# Altium footprint library SX1301DVK_e286v01a.PcbLib: 110 footprints (part 2 of 7)
Each footprint in its own frame and in the unit in brackets; x right, y up, seen from the top. Pads: shape width x height; smd on the part's side, far side on the other; paste and mask are expansions set on the pad; w line width, h text height; cw(c..) or ccw(c..) is an arc to the next point about the centre after c.
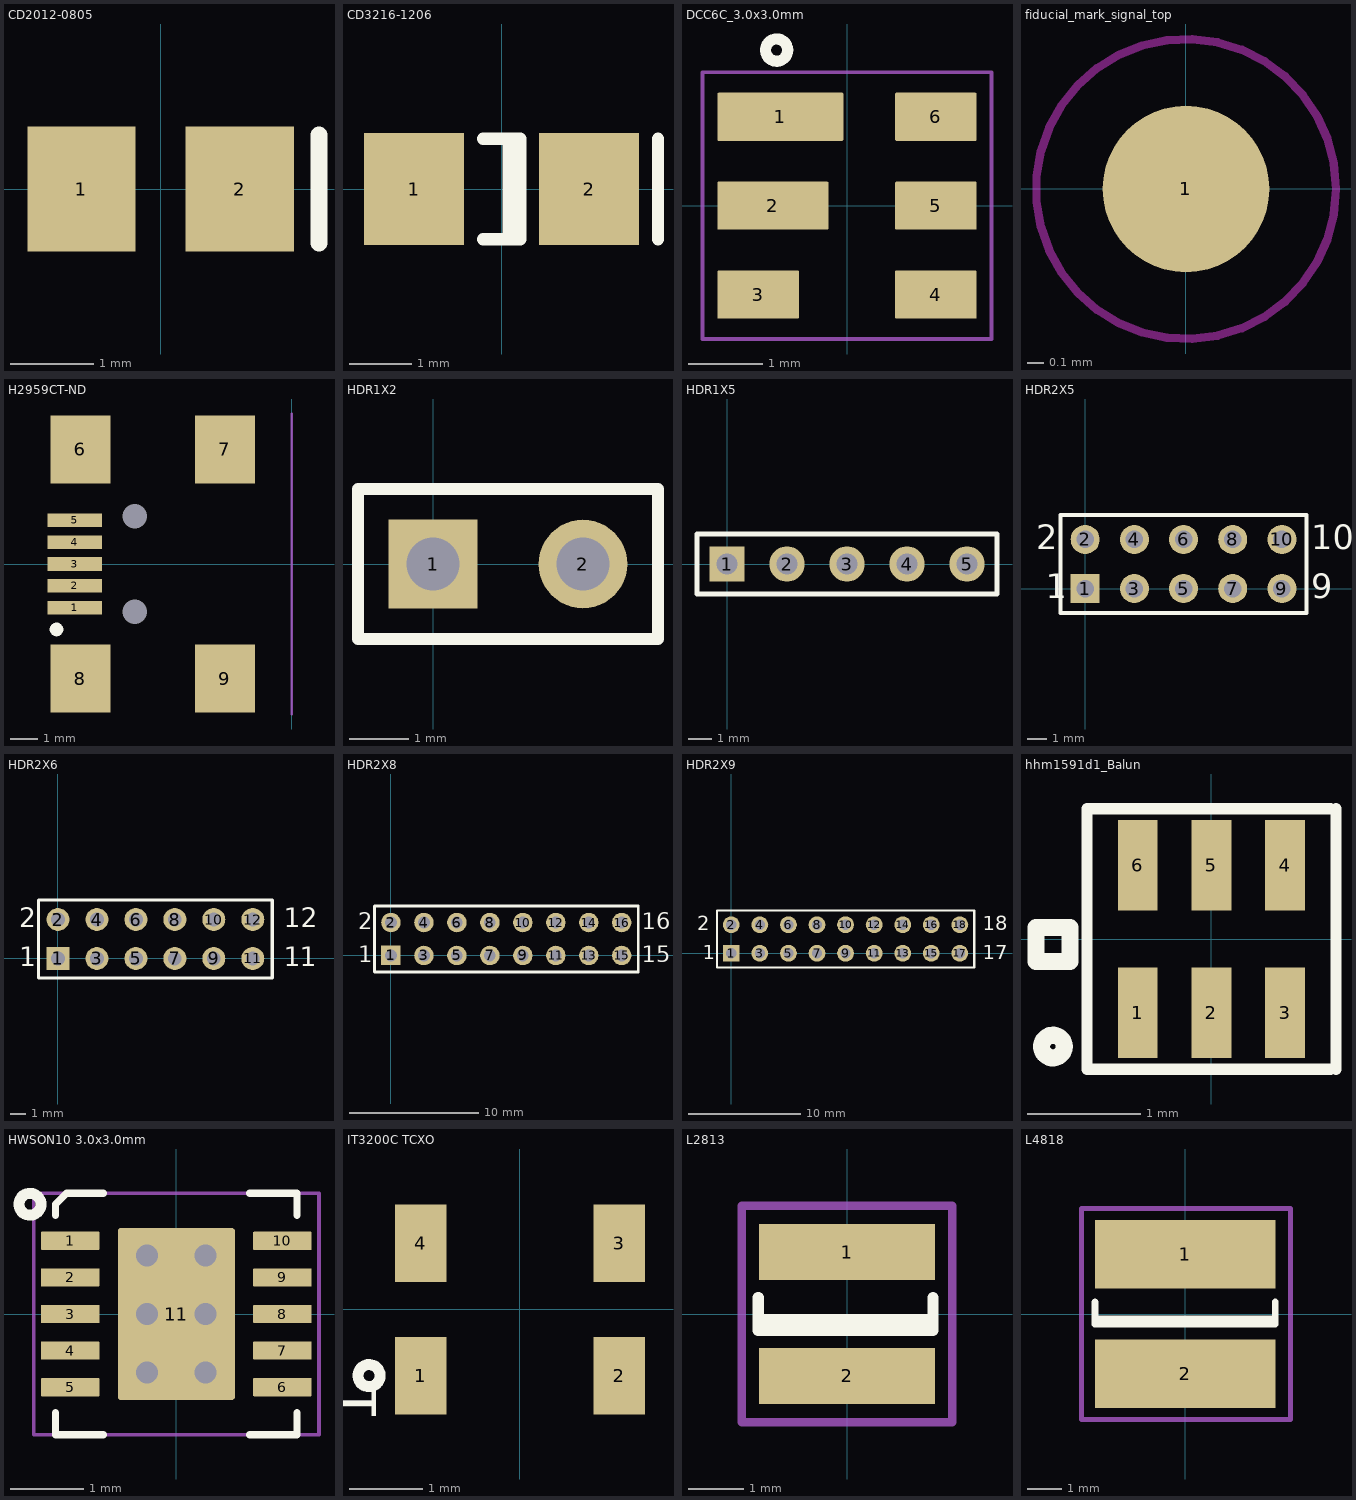
[diagram p1: the footprints below, top view; thin cyan lines are the x and y axes]

## CD2012-0805 [mm] "Chip Diode; Body 2.0 x 1.3 mm (LxW typ)"
height 1.1
pads (2):
  rect 1.3x1.5 smd mask+0.05: 1(-0.95,0) 2(0.95,0)
Top Overlay:
  lines w0.2: 1.9,-0.65 1.9,0.65

## CD3216-1206 [mm] "Chip Diode; Body 3.2 x 1.6 mm (LxW typ)"
height 1.35
pads (2):
  rect 1.6x1.8 smd mask+0.05: 1(-1.4,0) 2(1.4,0)
Top Overlay:
  lines w0.2: -0.3,-0.8 0.3,-0.8 0.3,0.8 -0.3,0.8 ; 0.11,-0.8 0.11,0.8 ; 2.5,-0.8 2.5,0.8

## DCC6C_3.0x3.0mm [mm] "DCC6C footprint, 3.0x3.0mm"
height 1.1
pads (6):
  rrect5% 1.7x0.65 smd mask+0.05: 1(-0.9,1.2)
  rrect5% 1.5x0.65 smd mask+0.05: 2(-1,0)
  rrect5% 1.1x0.65 smd mask+0.05: 3(-1.2,-1.2) 4(1.2,-1.2) 5(1.2,0) 6(1.2,1.2)
Top Overlay:
  circle w0.15: c-0.95,2.1 r0.15
Mechanical 15:
  lines w0.05: -1.95,-1.8 -1.95,1.8 1.95,1.8 1.95,-1.8 -1.95,-1.8
3D body: height 1, standoff 0, extent -1.5,-1.5 1.5,1.5

## fiducial_mark_signal_top [mm] "Fiducial mark for automatic assembly"
height 1
pads (1):
  round 1 smd paste-2 mask+0.5: 1(0,0)
Top Layer keep-out:
  circle w0.05: c0,0 r0.9

## H2959CT-ND [mm] "Connector; USB2.0, Type A, SM; 5 Position; Right Angle"
height 3.9
pads (11):
  rect 2x0.5 smd mask+0.05: 1(-7.95,-1.6) 2(-7.95,-0.8) 3(-7.95,0) 4(-7.95,0.8) 5(-7.95,1.6)
  rect 2.2x2.5 smd mask+0.05: 6(-7.75,4.2) 7(-2.45,4.2) 8(-7.75,-4.2) 9(-2.45,-4.2)
  round 0 hole 0.9 unplated mask+0.05: MH1(-5.75,1.75)
  round 0 hole 0.9 unplated paste+0 mask+0.05: MH2(-5.75,-1.75)
Top Overlay:
  circle w0.25: c-8.625,-2.4 r0.125
Mechanical 15:
  lines w0.1: 0,-5.5 0,5.5

## HDR1X2 [mm] "Connector; Header; 2 Position"
pads (2):
  rect 1.5x1.5 hole 0.9: 1(0,0)
  round 1.5 hole 0.9: 2(2.54,0)
Top Overlay:
  lines w0.2: -1.27,-1.27 -1.27,1.27 3.81,1.27 3.81,-1.27 -1.27,-1.27

## HDR1X5 [mm] "Connector; Header; 5 Position"
pads (5):
  rect 1.5x1.5 hole 0.9: 1(0,0)
  round 1.5 hole 0.9: 2(2.54,0) 3(5.08,0) 4(7.62,0) 5(10.16,0)
Top Overlay:
  lines w0.2: -1.27,-1.27 -1.27,1.27 11.43,1.27 11.43,-1.27 -1.27,-1.27

## HDR2X5 [mm] "Connector; Header; 5x2 Position"
pads (10):
  rect 1.5x1.5 hole 0.9: 1(0,0)
  round 1.5 hole 0.9: 2(0,2.54) 3(2.54,0) 4(2.54,2.54) 5(5.08,0) 6(5.08,2.54) 7(7.62,0) 8(7.62,2.54) 9(10.16,0) 10(10.16,2.54)
Top Overlay:
  lines w0.2: -1.27,-1.27 -1.27,3.81 11.43,3.81 11.43,-1.27 -1.27,-1.27
  text "2" at -2.54,2.032 h1.27
  text "1" at -2.032,-0.508 h1.27
  text "9" at 11.684,-0.508 h1.27
  text "10" at 11.684,2.032 h1.27

## HDR2X6 [mm] "Connector; Header; 6x2 Position"
pads (12):
  rect 1.5x1.5 hole 0.9: 1(0,0)
  round 1.5 hole 0.9: 2(0,2.54) 3(2.54,0) 4(2.54,2.54) 5(5.08,0) 6(5.08,2.54) 7(7.62,0) 8(7.62,2.54) 9(10.16,0) 10(10.16,2.54) 11(12.7,0) 12(12.7,2.54)
Top Overlay:
  lines w0.2: -1.27,-1.27 13.97,-1.27 13.97,3.81 -1.27,3.81 -1.27,-1.27
  text "12" at 14.732,2.032 h1.27
  text "1" at 15.748,-0.508 h1.27
  text "1" at 14.732,-0.508 h1.27
  text "1" at -2.54,-0.508 h1.27
  text "2" at -2.54,2.032 h1.27

## HDR2X8 [mm] "Connector; Header; 8x2 Position"
pads (16):
  rect 1.5x1.5 hole 0.9: 1(0,0)
  round 1.5 hole 0.9: 2(0,2.54) 3(2.54,0) 4(2.54,2.54) 5(5.08,0) 6(5.08,2.54) 7(7.62,0) 8(7.62,2.54) 9(10.16,0) 10(10.16,2.54) 11(12.7,0) 12(12.7,2.54) 13(15.24,0) 14(15.24,2.54) 15(17.78,0) 16(17.78,2.54)
Top Overlay:
  lines w0.2: -1.27,-1.27 -1.27,3.81 19.05,3.81 19.05,-1.27 -1.27,-1.27
  text "2" at -2.54,2.032 h1.27
  text "1" at -2.54,-0.508 h1.27
  text "15" at 19.304,-0.508 h1.27
  text "16" at 19.304,2.032 h1.27

## HDR2X9 [mm] "Connector; Header; 9x2 Position"
pads (18):
  rect 1.5x1.5 hole 0.9: 1(0,0)
  round 1.5 hole 0.9: 2(0,2.54) 3(2.54,0) 4(2.54,2.54) 5(5.08,0) 6(5.08,2.54) 7(7.62,0) 8(7.62,2.54) 9(10.16,0) 10(10.16,2.54) 11(12.7,0) 12(12.7,2.54) 13(15.24,0) 14(15.24,2.54) 15(17.78,0) 16(17.78,2.54) 17(20.32,0) 18(20.32,2.54)
Top Overlay:
  lines w0.2: -1.27,-1.27 21.59,-1.27 21.59,3.81 -1.27,3.81 -1.27,-1.27
  text "18" at 22.352,2.032 h1.27
  text "17" at 22.352,-0.508 h1.27
  text "1" at -2.54,-0.508 h1.27
  text "2" at -3.048,2.032 h1.27

## hhm1591d1_Balun [mm] "hhm1591d1; balun; TDK; Body 2.00 x 1.25 mm (LxW max)"
height 0.95
pads (6):
  rect 0.35x0.8 smd mask+0.05: 1(-0.65,-0.65) 2(0,-0.65) 3(0.65,-0.65) 4(0.65,0.65) 5(0,0.65) 6(-0.65,0.65)
Top Overlay:
  circle w0.15: c-1.4,-0.95 r0.1
  lines w0.051: 1.05,-1.15 1.1,-1.15 ; 1.05,1.15 1.1,1.15
  lines w0.1: 1.05,-1.15 -1.1,-1.15 -1.1,1.15 1.05,1.15 ; 1.1,-1.15 1.1,1.15
  lines w0.15: -1.55,-0.2 -1.55,0.1 -1.25,0.1 -1.25,-0.2 -1.55,-0.2
3D body: height 12, standoff 0, extent -1,-0.625 1,0.625

## HWSON10 3.0x3.0mm [mm] "10 Leads, Body 3.0x3.0mm, Pitch 0.5mm, HWSON10"
height 0.9
pads (11):
  rrect10% 0.8x0.25 smd mask+0.05: 1(-1.45,1) 2(-1.45,0.5) 3(-1.45,0) 4(-1.45,-0.5) 5(-1.45,-1) 6(1.45,-1) 7(1.45,-0.5) 8(1.45,0) 9(1.45,0.5) 10(1.45,1)
  rrect5% 1.6x2.35 smd paste-2.2 mask+0.05: 11(0,0)
via 0.4,0 diameter 0.6 hole 0.3
via -0.4,0 diameter 0.6 hole 0.3
via 0.4,0.8 diameter 0.6 hole 0.3
via 0.4,-0.8 diameter 0.6 hole 0.3
via -0.4,-0.8 diameter 0.6 hole 0.3
via -0.4,0.8 diameter 0.6 hole 0.3
Top Overlay:
  circle w0.15: c-2,1.5 r0.15
  lines w0.1: -1.65,-1.35 -1.65,-1.65 -1,-1.65 ; -1.65,1.35 -1.65,1.5 -1.5,1.65 -1,1.65 ; 1,-1.65 1.65,-1.65 1.65,-1.35 ; 1,1.65 1.65,1.65 1.65,1.35
Top Paste:
  region: -0.15,-0.575 -0.15,-1.1 0.15,-1.1 0.15,-0.575
  region: -0.15,0.225 -0.15,-0.225 0.15,-0.225 0.15,0.225
  region: 0.65,0.525 0.15,0.525 0.15,0.275 0.65,0.275
  region: -0.15,1.1 -0.15,0.575 0.15,0.575 0.15,1.1
  region: -0.15,-0.275 -0.65,-0.275 -0.65,-0.525 -0.15,-0.525
  region: -0.15,0.525 -0.65,0.525 -0.65,0.275 -0.15,0.275
  region: 0.65,-0.275 0.15,-0.275 0.15,-0.525 0.65,-0.525
Mechanical 15:
  lines w0.05: -1.95,-1.65 1.95,-1.65 1.95,1.65 -1.95,1.65 -1.95,-1.65
3D body: height 1, standoff 0.05, extent -1.5,-1.5 1.5,1.5

## IT3200C TCXO [mm] "SMD 3.2x2.5mm for IT3200C TCXO"
height 1
pads (4):
  rect 0.7x1.05 smd mask+0.05: 1(-1.35,-0.9) 2(1.35,-0.9) 3(1.35,0.9) 4(-1.35,0.9)
Top Overlay:
  circle w0.15: c-2.05,-0.9 r0.15
  text "1" at -1.95,-1.55 h0.6
3D body: height 1, standoff 0, extent -1.6,-1.25 1.6,1.25

## L2813 [mil] "L2813"
height 196.85
pads (2):
  rect 125x40 smd mask+1.97: 1(0,44) 2(0,-44)
Top Overlay:
  lines w7.87: -62.99,-3.94 61.02,-3.94 ; -62.99,11.81 -62.99,-11.81 61.02,-11.81 61.02,11.81
Mechanical 15:
  lines w5.91: -74.8,-76.77 74.8,-76.77 74.8,76.77 -74.8,76.77 -74.8,-76.77

## L4818 [mil] "L4818"
height 196.85
pads (2):
  rect 209x79 smd mask+1.97: 1(0,69.03) 2(0,-69.03)
Top Overlay:
  lines w7.87: -104.33,-0.98 -104.33,-5.91 104.33,-5.91 ; -104.33,13.78 -104.33,-11.81 104.33,-11.81 104.33,13.78
Mechanical 15:
  lines w5.91: -120.08,-122.05 122.05,-122.05
  lines w6: -120.08,-122.05 -120.08,122.05 122.05,122.05 122.05,-122.05